# EAGLE library part STM32F411CEU6 (library STM32F411CEU6)
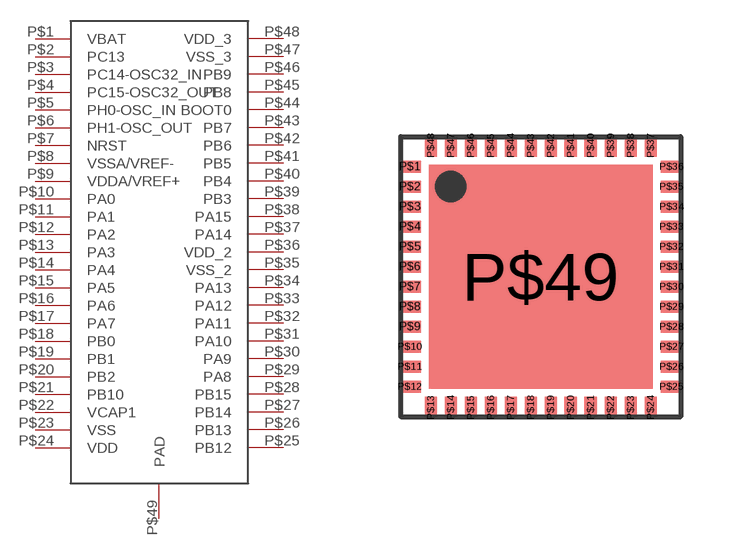
[diagram p0: symbol with the pads of STM32F411CEU6; footprint STM32F411CEU6]

Designator prefix -

## STM32F411CEU6  [STM32F411CEU6]
P$1  VBAT
P$2  PC13
P$3  PC14-OSC32_IN
P$4  PC15-OSC32_OUT
P$5  PH0-OSC_IN
P$6  PH1-OSC_OUT
P$7  NRST
P$8  VSSA/VREF-
P$9  VDDA/VREF+
P$10  PA0
P$11  PA1
P$12  PA2
P$13  PA3
P$14  PA4
P$15  PA5
P$16  PA6
P$17  PA7
P$18  PB0
P$19  PB1
P$20  PB2
P$21  PB10
P$22  VCAP1
P$23  VSS
P$24  VDD
P$25  PB12
P$26  PB13
P$27  PB14
P$28  PB15
P$29  PA8
P$30  PA9
P$31  PA10
P$32  PA11
P$33  PA12
P$34  PA13
P$35  VSS_2
P$36  VDD_2
P$37  PA14
P$38  PA15
P$39  PB3
P$40  PB4
P$41  PB5
P$42  PB6
P$43  PB7
P$44  BOOT0
P$45  PB8
P$46  PB9
P$47  VSS_3
P$48  VDD_3
P$49  PAD

## Footprint STM32F411CEU6 (pad centres in mm)
smd 0.55 x 0.3: P$1 0.225,6.25; P$2 0.225,5.75; P$3 0.225,5.25; P$4 0.225,4.75; P$5 0.225,4.25; P$6 0.225,3.75; P$7 0.225,3.25; P$8 0.225,2.75; P$9 0.225,2.25; P$10 0.225,1.75; P$11 0.225,1.25; P$12 0.225,0.75; P$25 6.775,0.75; P$26 6.775,1.25; P$27 6.775,1.75; P$28 6.775,2.25; P$29 6.775,2.75; P$30 6.775,3.25; P$31 6.775,3.75; P$32 6.775,4.25; P$33 6.775,4.75; P$34 6.775,5.25; P$35 6.775,5.75; P$36 6.775,6.25
smd 0.3 x 0.55: P$13 0.75,0.225; P$14 1.25,0.225; P$15 1.75,0.225; P$16 2.25,0.225; P$17 2.75,0.225; P$18 3.25,0.225; P$19 3.75,0.225; P$20 4.25,0.225; P$21 4.75,0.225; P$22 5.25,0.225; P$23 5.75,0.225; P$24 6.25,0.225; P$37 6.25,6.775; P$38 5.75,6.775; P$39 5.25,6.775; P$40 4.75,6.775; P$41 4.25,6.775; P$42 3.75,6.775; P$43 3.25,6.775; P$44 2.75,6.775; P$45 2.25,6.775; P$46 1.75,6.775; P$47 1.25,6.775; P$48 0.75,6.775
smd 5.6 x 5.6: P$49 3.5,3.5